# Altium schematic symbol library ICs-Memory.SchLib: 1 symbol
Pins are listed as number, name and electrical type; pins without a type are passive.

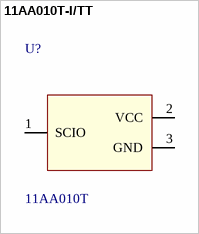
[diagram p0: symbol 11AA010T-I/TT]

## 11AA010T-I/TT
designator U?, comment 11AA010T
IC EEPROM 1KBIT SGL WIRE SOT23-3; MANUFACTURER #: 11AA010T-I/TT; MANUFACTURER: Microchip; PART DESCRIPTION: EEPROM Memory IC 1Kbit Single Wire 100 kHz SOT-23-3; VALUE: 11AA010T-I/TT; Assembly Method: SMT; PART: 11AA010T-I/TT
footprint SOT-23-3 (SOT23, 3-Leads, Body 2.92x2.37mm, Pitch 0.95mm, IPC High Density)
pins: 1 SCIO, 2 VCC, 3 GND